# Altium schematic symbol library MC34VR500V4ES.SchLib: 1 symbol
Pins are listed as number, name and electrical type; pins without a type are passive.

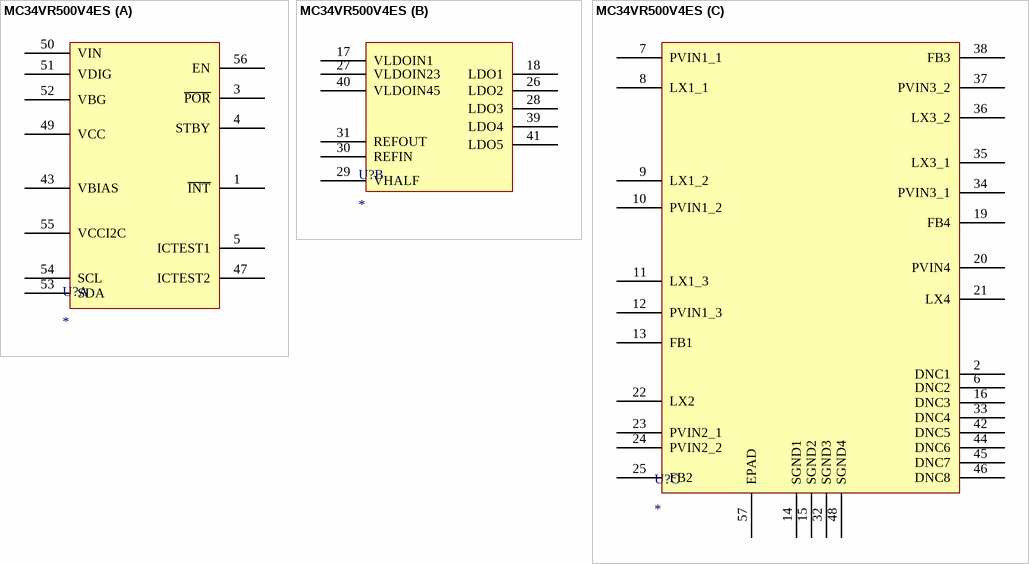
[diagram p0: symbol MC34VR500V4ES]

## MC34VR500V4ES
designator U?
Regulator, Buck, Quad with up to 4.5A Output and Triple User-programmable LDOs, QFN 56, Tray; MP: MC34VR500V4ES; MF: {'manufacturer': u'NXP Semiconductors'}; Package: None; Value: *; Availability: Unavailable; Price: None
footprint QFN50P800X800X90-57N
part A pins: 1 ~{INT}, 3 ~{POR}, 4 STBY, 5 ICTEST1, 43 VBIAS, 47 ICTEST2, 49 VCC, 50 VIN, 51 VDIG, 52 VBG, 53 SDA, 54 SCL, 55 VCCI2C, 56 EN
part B pins: 17 VLDOIN1, 18 LDO1, 26 LDO2, 27 VLDOIN23, 28 LDO3, 29 VHALF, 30 REFIN, 31 REFOUT, 39 LDO4, 40 VLDOIN45, 41 LDO5
part C pins: 2 DNC1, 6 DNC2, 7 PVIN1_1, 8 LX1_1, 9 LX1_2, 10 PVIN1_2, 11 LX1_3, 12 PVIN1_3, 13 FB1, 14 SGND1, 15 SGND2, 16 DNC3, 19 FB4, 20 PVIN4, 21 LX4, 22 LX2, 23 PVIN2_1, 24 PVIN2_2, 25 FB2, 32 SGND3, 33 DNC4, 34 PVIN3_1, 35 LX3_1, 36 LX3_2, 37 PVIN3_2, 38 FB3, 42 DNC5, 44 DNC6, 45 DNC7, 46 DNC8, 48 SGND4, 57 EPAD